# EAGLE library part TPS63002 (library TI Power and Battery)
This is the TI TPS63002 Fixed output 5V chip - http://www.ti.com/lit/ds/symlink/tps63001.pdf
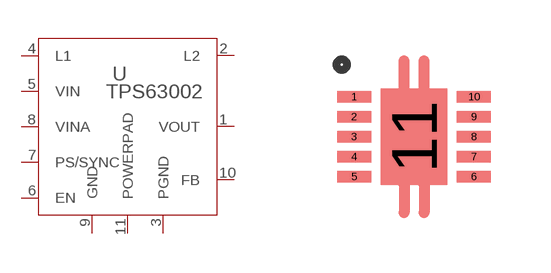
[diagram p0: symbol with the pads of QFN10-3.0MM; footprint QFN10-3.0MM]

Designator prefix -

## TPS63002  [QFN10-3.0MM]
1  VOUT  pas
2  L2  pas
3  PGND  pas
4  L1  pas
5  VIN  pas
6  EN  pas
7  PS/SYNC  pas
8  VINA  pas
9  GND  pas
10  FB  pas
11  POWERPAD  pas

## Footprint QFN10-3.0MM (pad centres in mm)
smd 0.85 x 0.28: 1 -1.5,1; 2 -1.5,0.5; 3 -1.5,0; 4 -1.5,-0.5; 5 -1.5,-1; 6 1.5,-1; 7 1.5,-0.5; 8 1.5,0; 9 1.5,0.5; 10 1.5,1
smd 1.65 x 2.4: 11 0,0